# Altium footprint library PCBLibrary.PcbLib: 61 footprints (part 4 of 4)
Each footprint in its own frame and in the unit in brackets; x right, y up, seen from the top. Pads: shape width x height; smd on the part's side, far side on the other; paste and mask are expansions set on the pad; w line width, h text height; cw(c..) or ccw(c..) is an arc to the next point about the centre after c.
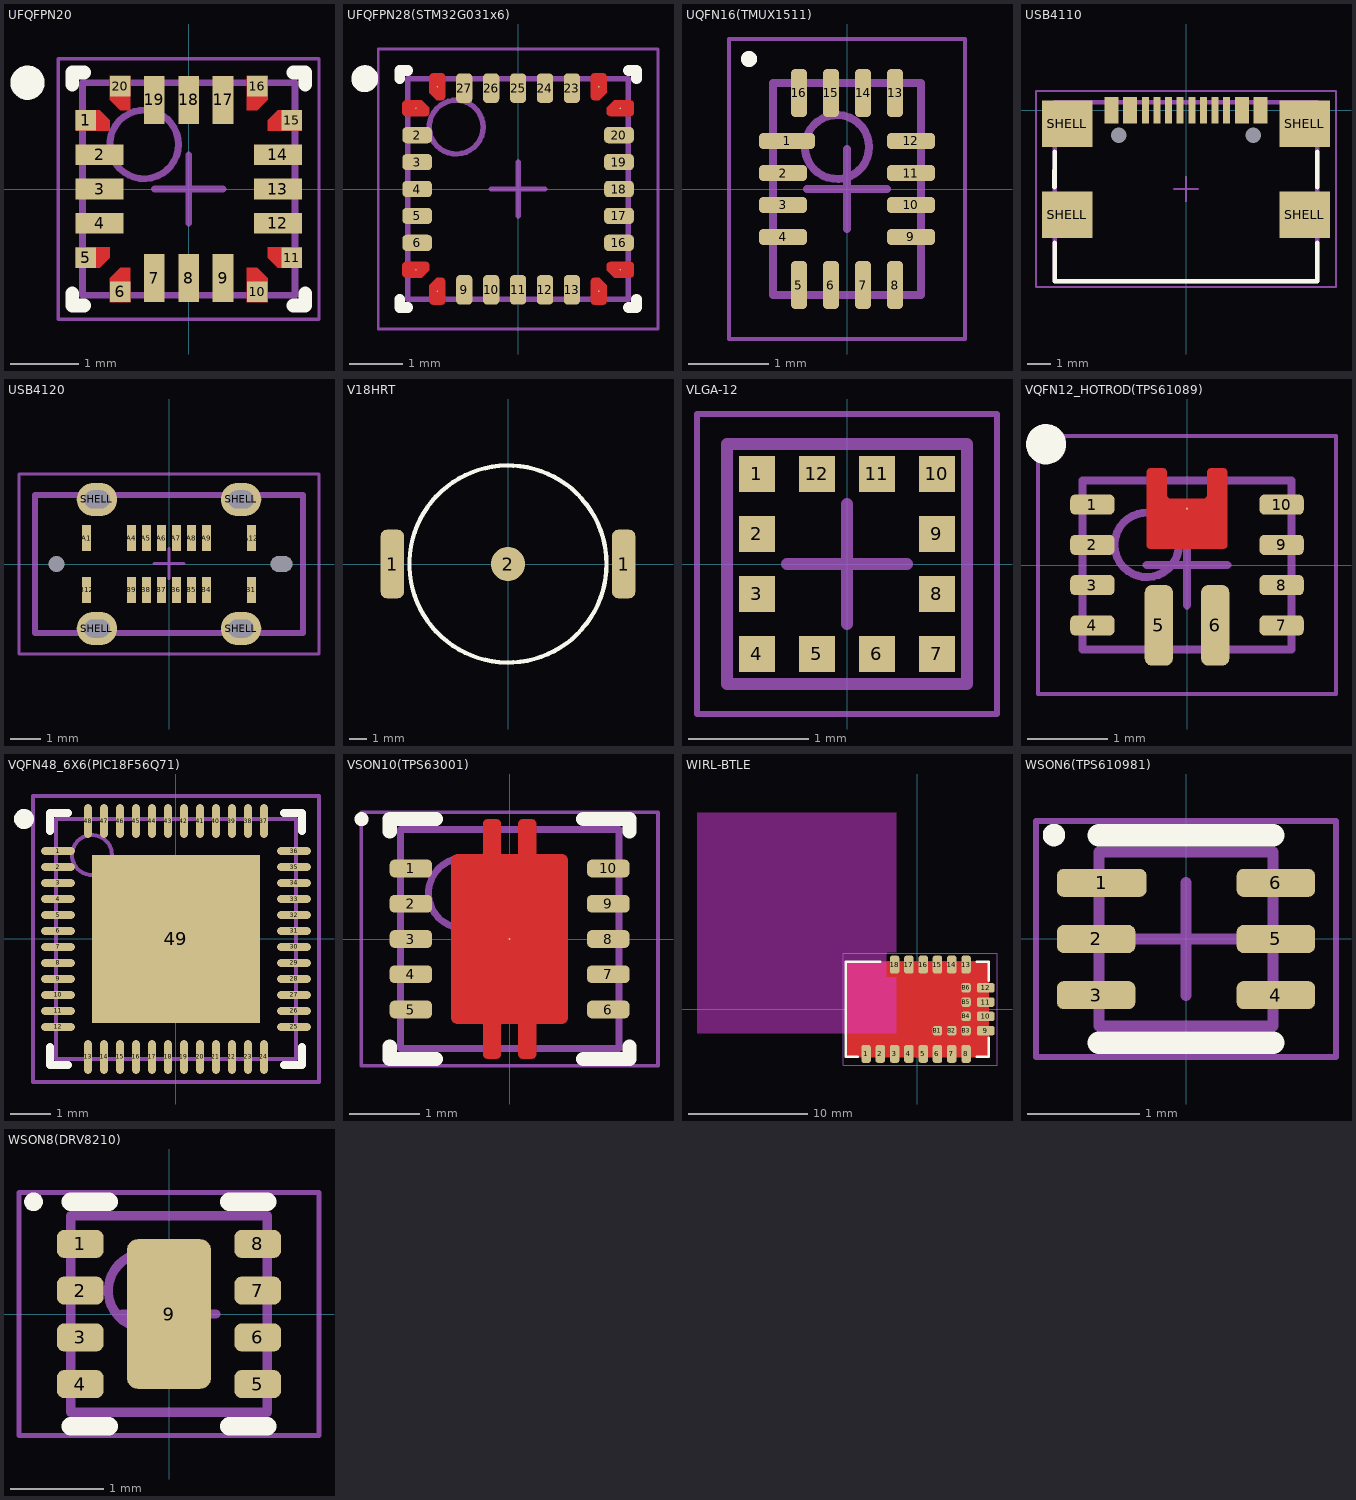
[diagram p3: the footprints below, top view; thin cyan lines are the x and y axes]

## UFQFPN20 [mm] "QFN, 20-Leads, Body 3.00x3.00mm, Pitch 0.50mm, IPC Medium Density"
height 0.6
pads (20):
  rect 0.3x0.3 smd: 1(-1.5,1) 5(-1.5,-1) 6(-1,-1.5) 10(1,-1.5) 11(1.5,-1) 15(1.5,1) 16(1,1.5) 20(-1,1.5)
  rect 0.7x0.3 smd: 2(-1.3,0.5) 3(-1.3,0) 4(-1.3,-0.5) 12(1.3,-0.5) 13(1.3,0) 14(1.3,0.5)
  rect 0.3x0.7 smd: 7(-0.5,-1.3) 8(0,-1.3) 9(0.5,-1.3) 17(0.5,1.3) 18(0,1.3) 19(-0.5,1.3)
Top Layer:
  region: 0.85,1.15 1,1.15 1.15,1.3 1.15,1.65 0.85,1.65
  region: 1.15,-0.85 1.15,-1 1.3,-1.15 1.65,-1.15 1.65,-0.85
  region: 1.15,0.85 1.15,1 1.3,1.15 1.65,1.15 1.65,0.85
  region: -1.15,0.85 -1.15,1 -1.3,1.15 -1.65,1.15 -1.65,0.85
  region: -0.85,1.15 -1,1.15 -1.15,1.3 -1.15,1.65 -0.85,1.65
  region: -1.15,-0.85 -1.15,-1 -1.3,-1.15 -1.65,-1.15 -1.65,-0.85
  region: -0.85,-1.15 -1,-1.15 -1.15,-1.3 -1.15,-1.65 -0.85,-1.65
  region: 0.85,-1.15 1,-1.15 1.15,-1.3 1.15,-1.65 0.85,-1.65
Top Overlay:
  circle w0.25: c-2.35,1.55 r0.125
  lines w0.2: -1.7,-1.525 -1.7,-1.7 -1.525,-1.7 ; -1.7,1.525 -1.7,1.7 -1.525,1.7 ; 1.525,-1.7 1.7,-1.7 1.7,-1.525 ; 1.525,1.7 1.7,1.7 1.7,1.525
Mechanical 13:
  circle w0.1: c-0.65,0.65 r0.5
  lines w0.1: -1.55,-1.55 1.55,-1.55 1.55,1.55 -1.55,1.55 -1.55,-1.55
Mechanical 15:
  lines w0.05: -1.9,-1.9 1.9,-1.9 1.9,1.9 -1.9,1.9 -1.9,-1.9
  lines w0.1: -0.5,0 0.5,0 ; 0,-0.5 0,0.5
3D body "UFQFPN20.step": height 0.6, standoff 0, extent -1.551,-1.551 1.551,1.551

## UFQFPN28(STM32G031x6) [mm] "QFN, 28-Leads, Body 4.00x4.00mm, Pitch 0.50mm, IPC Medium Density"
height 0.6
pads (28):
  round 0.025 smd: 1(-1.9,1.5) 7(-1.9,-1.5) 8(-1.5,-1.9) 14(1.5,-1.9) 15(1.9,-1.5) 21(1.9,1.5) 22(1.5,1.9) 28(-1.5,1.9)
  rrect50% 0.55x0.3 smd: 2(-1.875,1) 3(-1.875,0.5) 4(-1.875,0) 5(-1.875,-0.5) 6(-1.875,-1) 16(1.875,-1) 17(1.875,-0.5) 18(1.875,0) 19(1.875,0.5) 20(1.875,1)
  rrect50% 0.3x0.55 smd: 9(-1,-1.875) 10(-0.5,-1.875) 11(0,-1.875) 12(0.5,-1.875) 13(1,-1.875) 23(1,1.875) 24(0.5,1.875) 25(0,1.875) 26(-0.5,1.875) 27(-1,1.875)
Top Layer:
  region: 1.576,-2.15 1.59,-2.15 1.618,-2.139 1.639,-2.118 1.65,-2.09 1.65,-2.076 1.65,-1.791 1.509,-1.65 1.424,-1.65 1.41,-1.65 1.382,-1.661 1.361,-1.682 1.35,-1.71 1.35,-1.724 1.35,-2.075 1.35,-2.09 1.361,-2.117 1.383,-2.139 1.41,-2.15 1.425,-2.15
  region: 2.15,-1.576 2.15,-1.59 2.139,-1.618 2.118,-1.639 2.09,-1.65 2.076,-1.65 1.791,-1.65 1.65,-1.509 1.65,-1.424 1.65,-1.41 1.661,-1.382 1.682,-1.361 1.71,-1.35 1.724,-1.35 2.075,-1.35 2.09,-1.35 2.117,-1.361 2.139,-1.383 2.15,-1.41 2.15,-1.425
  region: -1.576,-2.15 -1.59,-2.15 -1.618,-2.139 -1.639,-2.118 -1.65,-2.09 -1.65,-2.076 -1.65,-1.791 -1.509,-1.65 -1.424,-1.65 -1.41,-1.65 -1.382,-1.661 -1.361,-1.682 -1.35,-1.71 -1.35,-1.724 -1.35,-2.075 -1.35,-2.09 -1.361,-2.117 -1.383,-2.139 -1.41,-2.15 -1.425,-2.15
  region: -2.15,-1.576 -2.15,-1.59 -2.139,-1.618 -2.118,-1.639 -2.09,-1.65 -2.076,-1.65 -1.791,-1.65 -1.65,-1.509 -1.65,-1.424 -1.65,-1.41 -1.661,-1.382 -1.682,-1.361 -1.71,-1.35 -1.724,-1.35 -2.075,-1.35 -2.09,-1.35 -2.117,-1.361 -2.139,-1.383 -2.15,-1.41 -2.15,-1.425
  region: -2.15,1.576 -2.15,1.59 -2.139,1.618 -2.118,1.639 -2.09,1.65 -2.076,1.65 -1.791,1.65 -1.65,1.509 -1.65,1.424 -1.65,1.41 -1.661,1.382 -1.682,1.361 -1.71,1.35 -1.724,1.35 -2.075,1.35 -2.09,1.35 -2.117,1.361 -2.139,1.383 -2.15,1.41 -2.15,1.425
  region: -1.576,2.15 -1.59,2.15 -1.618,2.139 -1.639,2.118 -1.65,2.09 -1.65,2.076 -1.65,1.791 -1.509,1.65 -1.424,1.65 -1.41,1.65 -1.382,1.661 -1.361,1.682 -1.35,1.71 -1.35,1.724 -1.35,2.075 -1.35,2.09 -1.361,2.117 -1.383,2.139 -1.41,2.15 -1.425,2.15
  region: 1.576,2.15 1.59,2.15 1.618,2.139 1.639,2.118 1.65,2.09 1.65,2.076 1.65,1.791 1.509,1.65 1.424,1.65 1.41,1.65 1.382,1.661 1.361,1.682 1.35,1.71 1.35,1.724 1.35,2.075 1.35,2.09 1.361,2.117 1.383,2.139 1.41,2.15 1.425,2.15
  region: 2.15,1.576 2.15,1.59 2.139,1.618 2.118,1.639 2.09,1.65 2.076,1.65 1.791,1.65 1.65,1.509 1.65,1.424 1.65,1.41 1.661,1.382 1.682,1.361 1.71,1.35 1.724,1.35 2.075,1.35 2.09,1.35 2.117,1.361 2.139,1.383 2.15,1.41 2.15,1.425
Top Overlay:
  circle w0.25: c-2.85,2.05 r0.125
  lines w0.2: -2.2,-2.05 -2.2,-2.2 -2.05,-2.2 ; -2.2,2.05 -2.2,2.2 -2.05,2.2 ; 2.05,-2.2 2.2,-2.2 2.2,-2.05 ; 2.05,2.2 2.2,2.2 2.2,2.05
Mechanical 13:
  circle w0.1: c-1.15,1.15 r0.5
  lines w0.1: -2.05,-2.05 -2.05,2.05 2.05,2.05 2.05,-2.05 -2.05,-2.05
Mechanical 15:
  lines w0.05: -2.6,-2.6 -2.6,2.6 2.6,2.6 2.6,-2.6 -2.6,-2.6
  lines w0.1: -0.5,0 0.5,0 ; 0,-0.5 0,0.5
3D body "UFQFPN28(STM32G031x6).step": height 0.6, standoff 0, extent -2.051,-2.051 2.051,2.051

## UQFN16(TMUX1511) [mm] "QFN, 16-Leads, Body 1.80x2.60mm, Pitch 0.40mm, IPC Medium Density"
height 0.55
pads (16):
  rrect50% 0.7x0.2 smd: 1(-0.75,0.6)
  rrect50% 0.6x0.2 smd: 2(-0.8,0.2) 3(-0.8,-0.2) 4(-0.8,-0.6) 9(0.8,-0.6) 10(0.8,-0.2) 11(0.8,0.2) 12(0.8,0.6)
  rrect50% 0.2x0.6 smd: 5(-0.6,-1.2) 6(-0.2,-1.2) 7(0.2,-1.2) 8(0.6,-1.2) 13(0.6,1.2) 14(0.2,1.2) 15(-0.2,1.2) 16(-0.6,1.2)
Top Overlay:
  circle w0.1: c-1.225,1.625 r0.05
Mechanical 13:
  circle w0.1: c-0.125,0.525 r0.4
  lines w0.1: -0.925,-1.325 0.925,-1.325 0.925,1.325 -0.925,1.325 -0.925,-1.325
Mechanical 15:
  lines w0.05: -1.475,-1.875 1.475,-1.875 1.475,1.875 -1.475,1.875 -1.475,-1.875
  lines w0.1: -0.5,0 0.5,0 ; 0,-0.5 0,0.5
3D body "UQFN16(TMUX1511).step": height 0.55, standoff 0, extent -0.926,-1.326 0.926,1.326

## USB4110 [mm] "USB Type C Receptacle for USB 2.0"
height 3.26
pads (22):
  round 0 hole 0.65 unplated: 0(-2.89,-1.075) 0(2.89,-1.075)
  rect 0.3x1.15 smd: A1(-3.35,0) A4(-2.55,0) A5(-1.25,0) A6(-0.25,0) A7(0.25,0) A8(1.25,0) A9(2.55,0) A12(3.35,0) B1(3.05,0) B4(2.25,0) B5(1.75,0) B6(0.75,0) B7(-0.75,0) B8(-1.75,0) B9(-2.25,0) B12(-3.05,0)
  rect 2.18x2 smd: SHELL(-5.11,-4.505) SHELL(-5.11,-0.575) SHELL(5.11,-4.505) SHELL(5.11,-0.575)
Top Overlay:
  lines w0.2: -5.653,-3.308 -5.649,-1.779 ; -5.65,-5.7 -5.65,-7.35 5.65,-7.35 5.65,-5.7 ; 5.647,-3.308 5.651,-1.779
Mechanical 13:
  lines w0.2: -5.65,-7.35 5.65,-7.35 5.65,0.35 -5.65,0.35 -5.65,-7.35
Mechanical 15:
  lines w0.1: -0.5,-3.387 0.5,-3.387 ; 0,-3.887 0,-2.887 ; -6.45,-7.6 -6.45,0.425 -6.45,0.825 -3.5,0.825 0,0.825 3.5,0.825 6.45,0.825 6.45,0.425 6.45,-7.6 5.65,-7.6 0,-7.6 -5.65,-7.6 -6.45,-7.6
3D body "USB4110-GF-A.stp": height 3.26, standoff -0.63, extent -5.65,-7.35 5.65,0.35

## USB4120 [mm] "USB Type C Receptacle for USB 2.0"
height 3.26
pads (22):
  rrect50% 0x0 hole 0.52 unplated: 0(-3.75,0)
  rrect50% 0x0 hole 0.52 slot 0.72 at 0 deg unplated: 0(3.75,0)
  rect 0.3x0.87 smd: A1(-2.75,0.865) A4(-1.25,0.865) A5(-0.75,0.865) A6(-0.25,0.865) A7(0.25,0.865) A8(0.75,0.865) A9(1.25,0.865) A12(2.75,0.865) B1(2.75,-0.865) B4(1.25,-0.865) B5(0.75,-0.865) B6(0.25,-0.865) B7(-0.25,-0.865) B8(-0.75,-0.865) B9(-1.25,-0.865) B12(-2.75,-0.865)
  oval 1.35x1.1 hole 0.6 slot 0.85 at 0 deg: SHELL(-2.4,-2.15) SHELL(-2.4,2.15) SHELL(2.4,-2.15) SHELL(2.4,2.15)
Top Paste:
  region: 2.525,1.6 2.634,1.6 2.837,1.684 2.991,1.838 3.075,2.041 3.075,2.15 3.075,2.259 2.991,2.462 2.837,2.616 2.634,2.7 2.525,2.7 2.275,2.7 2.166,2.7 1.963,2.616 1.809,2.462 1.725,2.259 1.725,2.15 1.725,2.041 1.809,1.838 1.963,1.684 2.166,1.6 2.275,1.6
  region: -2.275,1.6 -2.166,1.6 -1.963,1.684 -1.809,1.838 -1.725,2.041 -1.725,2.15 -1.725,2.259 -1.809,2.462 -1.963,2.616 -2.166,2.7 -2.275,2.7 -2.525,2.7 -2.634,2.7 -2.837,2.616 -2.991,2.462 -3.075,2.259 -3.075,2.15 -3.075,2.041 -2.991,1.838 -2.837,1.684 -2.634,1.6 -2.525,1.6
  region: 2.525,-2.7 2.634,-2.7 2.837,-2.616 2.991,-2.462 3.075,-2.259 3.075,-2.15 3.075,-2.041 2.991,-1.838 2.837,-1.684 2.634,-1.6 2.525,-1.6 2.275,-1.6 2.166,-1.6 1.963,-1.684 1.809,-1.838 1.725,-2.041 1.725,-2.15 1.725,-2.259 1.809,-2.462 1.963,-2.616 2.166,-2.7 2.275,-2.7
  region: -2.275,-2.7 -2.166,-2.7 -1.963,-2.616 -1.809,-2.462 -1.725,-2.259 -1.725,-2.15 -1.725,-2.041 -1.809,-1.838 -1.963,-1.684 -2.166,-1.6 -2.275,-1.6 -2.525,-1.6 -2.634,-1.6 -2.837,-1.684 -2.991,-1.838 -3.075,-2.041 -3.075,-2.15 -3.075,-2.259 -2.991,-2.462 -2.837,-2.616 -2.634,-2.7 -2.525,-2.7
Mechanical 13:
  lines w0.2: -4.47,-2.3 -4.47,2.3 4.47,2.3 4.47,-2.3 -4.47,-2.3
Mechanical 15:
  lines w0.1: -0.5,0.013 0.5,0.013 ; 0,-0.487 0,0.513 ; -5,-3 -5,2.375 -5,3 -2.275,3 1.225,3 4.725,3 5,3 5,1.975 5,-3 0,-3 -5,-3
3D body "USB4120-03-C.stp": height 6.5, standoff -0.95, extent -4.47,-2.3 4.47,2.3

## V18HRT [mm] "Battery with holders"
height 2.3
pads (3):
  rrect50% 1.35x4 smd: 1(-6.75,0) 1(6.75,0)
  round 2 smd: 2(0,0)
Top Overlay:
  circle w0.254: c0,0 r5.75
3D body "keystone-PN120TR.STEP": height 1.81, standoff 0, extent -7.4,-3.119 -4.755,3.119
3D body: height 2.3, standoff 0, extent -5.75,-5.75 5.75,5.75

## VLGA-12 [mm] "LGA, 12-Leads, Body 2.00x2.00mmx1.00mm, Pitch 0.50mm"
height 1
pads (12):
  rect 0.3x0.3 smd: 1(-0.75,0.75) 2(-0.75,0.25) 3(-0.75,-0.25) 4(-0.75,-0.75) 5(-0.25,-0.75) 6(0.25,-0.75) 7(0.75,-0.75) 8(0.75,-0.25) 9(0.75,0.25) 10(0.75,0.75) 11(0.25,0.75) 12(-0.25,0.75)
Mechanical 13:
  lines w0.1: -1,-1 1,-1 1,1 -1,1 -1,-1
Mechanical 15:
  lines w0.05: -1.25,-1.25 1.25,-1.25 1.25,1.25 -1.25,1.25 -1.25,-1.25
  lines w0.1: -0.5,0 0.5,0 ; 0,-0.5 0,0.5
3D body: height 1, standoff 0, extent -1,-1 1,1

## VQFN12_HOTROD(TPS61089) [mm] "QFN, 12-Leads, Body 2.50x2.00mm, Pitch 0.70mm/0.50mm, IPC Medium Density"
height 1
pads (11):
  rrect50% 0.55x0.25 smd: 1(-1.175,0.75) 2(-1.175,0.25) 3(-1.175,-0.25) 4(-1.175,-0.75) 7(1.175,-0.75) 8(1.175,-0.25) 9(1.175,0.25) 10(1.175,0.75)
  rrect50% 0.35x1 smd paste-0.013: 5(-0.35,-0.75) 6(0.35,-0.75)
  round 0.025 smd paste-0.5: 11(0,0.7)
Top Layer:
  region: 0.45,0.2 0.46,0.2 0.478,0.208 0.492,0.222 0.5,0.24 0.5,0.25 0.5,1.15 0.5,1.16 0.492,1.178 0.478,1.192 0.46,1.2 0.45,1.2 0.3,1.2 0.29,1.2 0.272,1.192 0.258,1.178 0.25,1.16 0.25,1.15 0.25,0.87 0.249,0.86 0.242,0.842 0.228,0.828 0.21,0.821 0.2,0.82 -0.2,0.82 -0.21,0.821 -0.228,0.828 -0.242,0.842 -0.249,0.86 -0.25,0.87 -0.25,1.15 -0.25,1.16 -0.258,1.178 -0.272,1.192 -0.29,1.2 -0.3,1.2 -0.45,1.2 -0.46,1.2 -0.478,1.192 -0.492,1.178 -0.5,1.16 -0.5,1.15 -0.5,0.25 -0.5,0.24 -0.492,0.222 -0.478,0.208 -0.46,0.2 -0.45,0.2
Top Overlay:
  circle w0.25: c-1.75,1.5 r0.125
Top Paste:
  region: 0.45,0.2 0.46,0.2 0.478,0.208 0.492,0.222 0.5,0.24 0.5,0.25 0.5,0.67 0.5,0.68 0.492,0.698 0.478,0.712 0.46,0.72 0.45,0.72 -0.45,0.72 -0.46,0.72 -0.478,0.712 -0.492,0.698 -0.5,0.68 -0.5,0.67 -0.5,0.25 -0.5,0.24 -0.492,0.222 -0.478,0.208 -0.46,0.2 -0.45,0.2
  region: 0.3,0.92 0.29,0.92 0.272,0.928 0.258,0.942 0.25,0.96 0.25,0.97 0.25,1.15 0.25,1.16 0.258,1.178 0.272,1.192 0.29,1.2 0.3,1.2 0.45,1.2 0.46,1.2 0.478,1.192 0.492,1.178 0.5,1.16 0.5,1.15 0.5,0.97 0.5,0.96 0.492,0.942 0.478,0.928 0.46,0.92 0.45,0.92
  region: -0.3,0.92 -0.29,0.92 -0.272,0.928 -0.258,0.942 -0.25,0.96 -0.25,0.97 -0.25,1.15 -0.25,1.16 -0.258,1.178 -0.272,1.192 -0.29,1.2 -0.3,1.2 -0.45,1.2 -0.46,1.2 -0.478,1.192 -0.492,1.178 -0.5,1.16 -0.5,1.15 -0.5,0.97 -0.5,0.96 -0.492,0.942 -0.478,0.928 -0.46,0.92 -0.45,0.92
Mechanical 13:
  circle w0.1: c-0.5,0.25 r0.4
  lines w0.1: -1.3,-1.05 -1.3,1.05 1.3,1.05 1.3,-1.05 -1.3,-1.05
Mechanical 15:
  lines w0.05: -1.85,-1.6 -1.85,1.6 1.85,1.6 1.85,-1.6 -1.85,-1.6
  lines w0.1: -0.5,0 0.5,0 ; 0,-0.5 0,0.5
3D body "VQFN12_HOTROD(TPS61089).step": height 1, standoff 0, extent -1.301,-1.051 1.301,1.051

## VQFN48_6X6(PIC18F56Q71) [mm] "QFN, 48-Leads, Body 6.00x6.00mm, Pitch 0.40mm, Thermal Pad 4.20x4.20mm, IPC Medium Density"
height 0.9
pads (49):
  oval 0.85x0.2 smd: 1(-2.95,2.2) 2(-2.95,1.8) 3(-2.95,1.4) 4(-2.95,1) 5(-2.95,0.6) 6(-2.95,0.2) 7(-2.95,-0.2) 8(-2.95,-0.6) 9(-2.95,-1) 10(-2.95,-1.4) 11(-2.95,-1.8) 12(-2.95,-2.2) 25(2.95,-2.2) 26(2.95,-1.8) 27(2.95,-1.4) 28(2.95,-1) 29(2.95,-0.6) 30(2.95,-0.2) 31(2.95,0.2) 32(2.95,0.6) 33(2.95,1) 34(2.95,1.4) 35(2.95,1.8) 36(2.95,2.2)
  oval 0.2x0.85 smd: 13(-2.2,-2.95) 14(-1.8,-2.95) 15(-1.4,-2.95) 16(-1,-2.95) 17(-0.6,-2.95) 18(-0.2,-2.95) 19(0.2,-2.95) 20(0.6,-2.95) 21(1,-2.95) 22(1.4,-2.95) 23(1.8,-2.95) 24(2.2,-2.95) 37(2.2,2.95) 38(1.8,2.95) 39(1.4,2.95) 40(1,2.95) 41(0.6,2.95) 42(0.2,2.95) 43(-0.2,2.95) 44(-0.6,2.95) 45(-1,2.95) 46(-1.4,2.95) 47(-1.8,2.95) 48(-2.2,2.95)
  rect 4.2x4.2 smd: 49(0,0)
Top Overlay:
  circle w0.25: c-3.8,3 r0.125
  lines w0.2: -3.15,-2.7 -3.15,-3.15 -2.7,-3.15 ; -3.15,2.7 -3.15,3.15 -2.7,3.15 ; 2.7,-3.15 3.15,-3.15 3.15,-2.7 ; 2.7,3.15 3.15,3.15 3.15,2.7
Mechanical 13:
  circle w0.1: c-2.1,2.1 r0.5
  lines w0.1: -3,-3 -3,3 3,3 3,-3 -3,-3
Mechanical 15:
  lines w0.1: -0.5,0 0.5,0 ; 0,-0.5 0,0.5 ; -3.575,-3.575 -3.575,3.575 3.575,3.575 3.575,-3.575 -3.575,-3.575
3D body "VQFN48_6X6(PIC18F56Q71).step": height 0.9, standoff 0, extent -3.001,-3.001 3.001,3.001

## VSON10(TPS63001) [mm] "SON, 10-Leads, Body 3.00x3.00mm, Pitch 0.50mm, Thermal Pad 2.40x1.49mm, IPC Medium Density"
height 1
pads (11):
  rrect50% 0.6x0.25 smd: 1(-1.4,1) 2(-1.4,0.5) 3(-1.4,0) 4(-1.4,-0.5) 5(-1.4,-1) 6(1.4,-1) 7(1.4,-0.5) 8(1.4,0) 9(1.4,0.5) 10(1.4,1)
  round 0.025 smd paste-0.825: 11(0,0)
Top Layer:
  region: 0.4,1.2 0.395,1.2 0.386,1.204 0.379,1.211 0.375,1.22 0.375,1.225 0.375,1.637 0.375,1.65 0.365,1.673 0.348,1.69 0.325,1.7 0.313,1.7 0.187,1.7 0.175,1.7 0.152,1.69 0.135,1.673 0.125,1.65 0.125,1.637 0.125,1.225 0.125,1.22 0.121,1.211 0.114,1.204 0.105,1.2 0.1,1.2 -0.1,1.2 -0.105,1.2 -0.114,1.204 -0.121,1.211 -0.125,1.22 -0.125,1.225 -0.125,1.637 -0.125,1.65 -0.135,1.673 -0.152,1.69 -0.175,1.7 -0.187,1.7 -0.313,1.7 -0.325,1.7 -0.348,1.69 -0.365,1.673 -0.375,1.65 -0.375,1.637 -0.375,1.225 -0.375,1.22 -0.379,1.211 -0.386,1.204 -0.395,1.2 -0.4,1.2 -0.743,1.2 -0.759,1.2 -0.789,1.187 -0.812,1.164 -0.825,1.134 -0.825,1.118 -0.825,-1.118 -0.825,-1.134 -0.812,-1.164 -0.789,-1.187 -0.759,-1.2 -0.743,-1.2 -0.4,-1.2 -0.395,-1.2 -0.386,-1.204 -0.379,-1.211 -0.375,-1.22 -0.375,-1.225 -0.375,-1.637 -0.375,-1.65 -0.365,-1.673 -0.348,-1.69 -0.325,-1.7 -0.313,-1.7 -0.187,-1.7 -0.175,-1.7 -0.152,-1.69 -0.135,-1.673 -0.125,-1.65 -0.125,-1.637 -0.125,-1.225 -0.125,-1.22 -0.121,-1.211 -0.114,-1.204 -0.105,-1.2 -0.1,-1.2 0.1,-1.2 0.105,-1.2 0.114,-1.204 0.121,-1.211 0.125,-1.22 0.125,-1.225 0.125,-1.637 0.125,-1.65 0.135,-1.673 0.152,-1.69 0.175,-1.7 0.187,-1.7 0.313,-1.7 0.325,-1.7 0.348,-1.69 0.365,-1.673 0.375,-1.65 0.375,-1.637 0.375,-1.225 0.375,-1.22 0.379,-1.211 0.386,-1.204 0.395,-1.2 0.4,-1.2 0.743,-1.2 0.759,-1.2 0.789,-1.187 0.812,-1.164 0.825,-1.134 0.825,-1.118 0.825,1.118 0.825,1.134 0.812,1.164 0.789,1.187 0.759,1.2 0.743,1.2
Top Overlay:
  circle w0.1: c-2.1,1.7 r0.05
  lines w0.2: -1.7,-1.525 -1.7,-1.7 -1.045,-1.7 ; -1.7,1.525 -1.7,1.7 -1.045,1.7 ; 1.045,-1.7 1.7,-1.7 1.7,-1.525 ; 1.045,1.7 1.7,1.7 1.7,1.525
Top Paste:
  drawing of 6 lines, arcs and shapes, not listed
Mechanical 13:
  circle w0.1: c-0.65,0.65 r0.5
  lines w0.1: -1.55,-1.55 -1.55,1.55 1.55,1.55 1.55,-1.55 -1.55,-1.55
Mechanical 15:
  lines w0.05: -2.105,-1.8 -2.105,1.8 2.105,1.8 2.105,-1.8 -2.105,-1.8
  lines w0.1: -0.5,0 0.5,0 ; 0,-0.5 0,0.5
3D body "VSON10(TPS63001).step": height 1, standoff 0, extent -1.551,-1.55 1.551,1.55

## WIRL-BTLE [mm] "Proteus-III Bluetooth  5.1 module T&R"
height 0.65
pads (24):
  rrect50% 0.8x1.5 smd mask+0.05: 1(-4.3,-3.75) 2(-3.1,-3.75) 3(-1.9,-3.75) 4(-0.7,-3.75) 5(0.5,-3.75) 6(1.7,-3.75) 7(2.9,-3.75) 8(4.1,-3.75) 13(4.1,3.75) 14(2.9,3.75) 15(1.7,3.75) 16(0.5,3.75) 17(-0.7,3.75) 18(-1.9,3.75)
  rrect50% 1.5x0.8 smd mask+0.05: 9(5.75,-1.8) 10(5.75,-0.6) 11(5.75,0.6) 12(5.75,1.8)
  rrect50% 0.8x0.8 smd mask+0.05: B1(1.7,-1.8) B2(2.9,-1.8) B3(4.1,-1.8) B4(4.1,-0.6) B5(4.1,0.6) B6(4.1,1.8)
Top Layer:
  pour cut-out: 6,4 6,-4 -6,-4 -6,4
Top Overlay:
  lines w0.2: -5,-4 -6,-4 -6,4 -3.1,4 ; 5,-4 6,-4 6,-2.4 ; 5,4 6,4 6,2.4
Keep-Out Layer:
  region: -18.5,16.5 -1.77,16.5 -1.77,4.8 -2.6,4.8 -2.6,2.7 -1.77,2.7 -1.77,-2 -18.5,-2
Mechanical 13:
  lines w0.1: -6,-4 6,-4 6,4 -6,4 -6,-4
Mechanical 15:
  lines w0.05: -6.2,-4.7 6.7,-4.7 6.7,4.7 -6.2,4.7 -6.2,-4.7
  lines w0.1: -0.325,0 0.325,0 ; 0,-0.325 0,0.325
3D body "2611011024001.stp": height 2, standoff -0.02, extent -6,-4 6,4

## WSON6(TPS610981) [mm] "SON, 6-Leads, Body 1.50x1.50mm, Pitch 0.50mm, IPC Medium Density"
height 0.8
pads (6):
  rrect50% 0.8x0.25 smd: 1(-0.75,0.5)
  rrect50% 0.7x0.25 smd: 2(-0.8,0) 3(-0.8,-0.5) 4(0.8,-0.5) 5(0.8,0) 6(0.8,0.5)
Top Overlay:
  circle w0.1: c-1.175,0.925 r0.05
  lines w0.2: -0.775,-0.925 0.775,-0.925 ; -0.775,0.925 0.775,0.925
Mechanical 13:
  lines w0.1: -0.775,-0.775 0.775,-0.775 0.775,0.775 -0.775,0.775 -0.775,-0.775
Mechanical 15:
  lines w0.05: -1.335,-1.05 1.335,-1.05 1.335,1.05 -1.335,1.05 -1.335,-1.05
  lines w0.1: -0.5,0 0.5,0 ; 0,-0.5 0,0.5
3D body "WSON6(TPS610981).step": height 0.8, standoff 0, extent -0.875,-0.775 0.875,0.775

## WSON8(DRV8210) [mm] "SON, 8-Leads, Body 2.00x2.00mm, Pitch 0.50mm, Thermal Pad 1.60x0.69mm, IPC Medium Density"
height 0.8
pads (9):
  rrect50% 0.5x0.3 smd: 1(-0.95,0.75) 2(-0.95,0.25) 3(-0.95,-0.25) 4(-0.95,-0.75) 5(0.95,-0.75) 6(0.95,-0.25) 7(0.95,0.25) 8(0.95,0.75)
  rrect25% 0.9x1.6 smd paste-2539.97: 9(0,0)
Top Overlay:
  circle w0.1: c-1.45,1.2 r0.05
  lines w0.2: -1.05,-1.2 -0.645,-1.2 ; -1.05,1.2 -0.645,1.2 ; 0.645,-1.2 1.05,-1.2 ; 0.645,1.2 1.05,1.2
Top Paste:
  region: 0.35,0.8 0.37,0.8 0.407,0.785 0.435,0.757 0.45,0.72 0.45,0.7 0.45,0.2 0.45,0.18 0.435,0.143 0.407,0.115 0.37,0.1 0.35,0.1 -0.35,0.1 -0.37,0.1 -0.407,0.115 -0.435,0.143 -0.45,0.18 -0.45,0.2 -0.45,0.7 -0.45,0.72 -0.435,0.757 -0.407,0.785 -0.37,0.8 -0.35,0.8
  region: -0.35,-0.8 -0.37,-0.8 -0.407,-0.785 -0.435,-0.757 -0.45,-0.72 -0.45,-0.7 -0.45,-0.2 -0.45,-0.18 -0.435,-0.143 -0.407,-0.115 -0.37,-0.1 -0.35,-0.1 0.35,-0.1 0.37,-0.1 0.407,-0.115 0.435,-0.143 0.45,-0.18 0.45,-0.2 0.45,-0.7 0.45,-0.72 0.435,-0.757 0.407,-0.785 0.37,-0.8 0.35,-0.8
Mechanical 13:
  circle w0.1: c-0.25,0.25 r0.4
  lines w0.1: -1.05,-1.05 -1.05,1.05 1.05,1.05 1.05,-1.05 -1.05,-1.05
Mechanical 15:
  lines w0.05: -1.605,-1.3 -1.605,1.3 1.605,1.3 1.605,-1.3 -1.605,-1.3
  lines w0.1: -0.5,0 0.5,0 ; 0,-0.5 0,0.5
3D body "WSON8(DRV8210).step": height 0.8, standoff 0, extent -1.051,-1.05 1.051,1.05